# EAGLE library part TANG_PRIMER_20K_DEV (library SamacSys_Parts)
Double Data Rate (DDR) 3, 5.2 mm [.205 in] Stack Height, Right Angle Module Orientation, 204 Position, .6 mm [.024 in] Centerline, SO DIMM Sockets Source: Datasheet <https://www.te.com/commerce/DocumentDelivery/DDEController?Action=srchrtrv&DocNm=2013289&DocType=Customer Drawing&DocLang=English&DocFormat=pdf&PartCntxt=2013289-1>
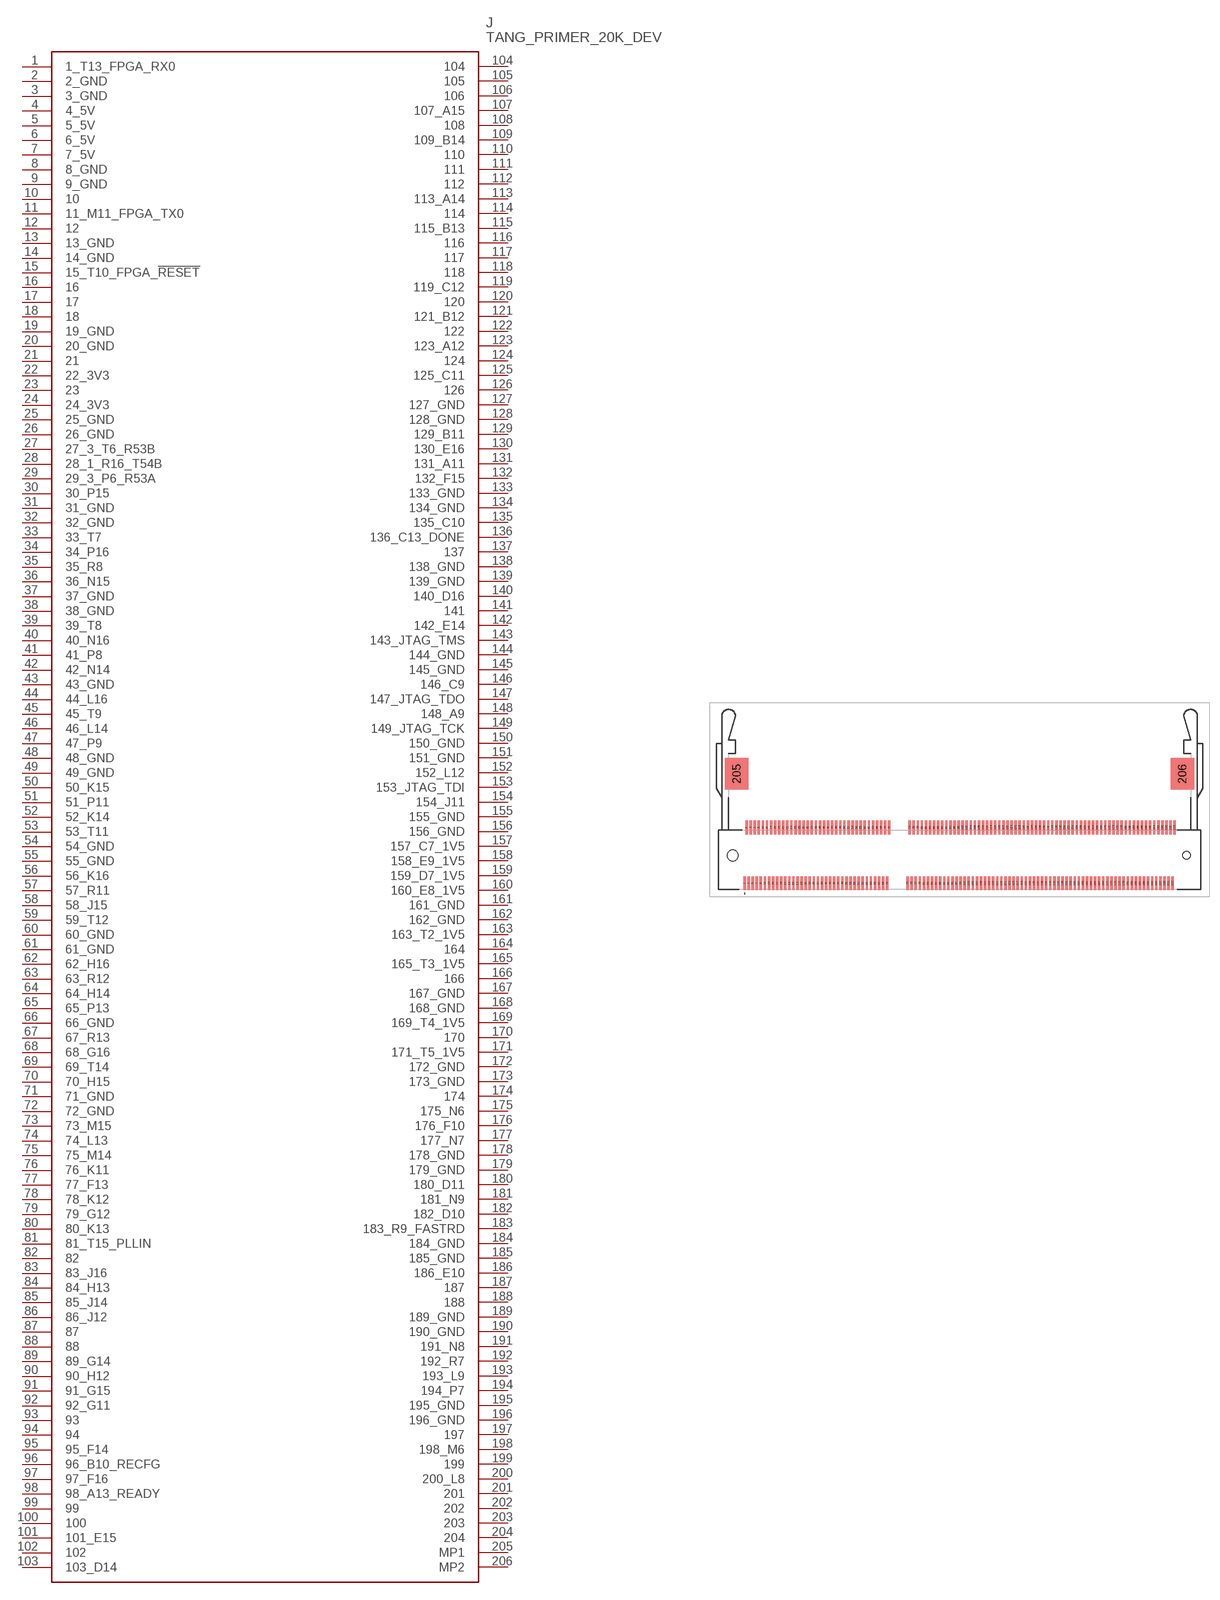
[diagram p259: symbol with the pads of 20132891; footprint 20132891]

Designator prefix J

## TANG_PRIMER_20K_DEVTANG_PRIMER_20K (LCSC_PART: C306045; MFR_PART: 2-2013289-1)  [20132891]
1  1_T13_FPGA_RX0
2  2_GND  pwr
3  3_GND  pwr
4  4_5V  pwr
5  5_5V  pwr
6  6_5V  pwr
7  7_5V  pwr
8  8_GND  pwr
9  9_GND  pwr
10  10  nc
11  11_M11_FPGA_TX0
12  12  nc
13  13_GND  pwr
14  14_GND  pwr
15  15_T10_FPGA_!RESET
16  16  nc
17  17  nc
18  18  nc
19  19_GND  pwr
20  20_GND  pwr
21  21  nc
22  22_3V3  pwr
23  23  nc
24  24_3V3  pwr
25  25_GND  pwr
26  26_GND  pwr
27  27_3_T6_R53B
28  28_1_R16_T54B
29  29_3_P6_R53A
30  30_P15
31  31_GND  pwr
32  32_GND  pwr
33  33_T7
34  34_P16
35  35_R8
36  36_N15
37  37_GND  pwr
38  38_GND  pwr
39  39_T8
40  40_N16
41  41_P8
42  42_N14
43  43_GND  pwr
44  44_L16
45  45_T9
46  46_L14
47  47_P9
48  48_GND  pwr
49  49_GND  pwr
50  50_K15
51  51_P11
52  52_K14
53  53_T11
54  54_GND  pwr
55  55_GND  pwr
56  56_K16
57  57_R11
58  58_J15
59  59_T12
60  60_GND  pwr
61  61_GND  pwr
62  62_H16
63  63_R12
64  64_H14
65  65_P13
66  66_GND  pwr
67  67_R13
68  68_G16
69  69_T14
70  70_H15
71  71_GND  pwr
72  72_GND  pwr
73  73_M15
74  74_L13
75  75_M14
76  76_K11
77  77_F13
78  78_K12
79  79_G12
80  80_K13
81  81_T15_PLLIN
82  82  nc
83  83_J16
84  84_H13
85  85_J14
86  86_J12
87  87  nc
88  88  nc
89  89_G14
90  90_H12
91  91_G15
92  92_G11
93  93  nc
94  94  nc
95  95_F14
96  96_B10_RECFG
97  97_F16
98  98_A13_READY
99  99  nc
100  100  nc
101  101_E15
102  102  nc
103  103_D14
104  104  nc
105  105  nc
106  106  nc
107  107_A15
108  108  nc
109  109_B14
110  110  nc
111  111  nc
112  112  nc
113  113_A14
114  114  nc
115  115_B13
116  116  nc
117  117  nc
118  118  nc
119  119_C12
120  120  nc
121  121_B12
122  122  nc
123  123_A12
124  124  nc
125  125_C11
126  126  nc
127  127_GND  pwr
128  128_GND  pwr
129  129_B11
130  130_E16
131  131_A11
132  132_F15
133  133_GND  pwr
134  134_GND  pwr
135  135_C10
136  136_C13_DONE
137  137  nc
138  138_GND  pwr
139  139_GND  pwr
140  140_D16
141  141  nc
142  142_E14
143  143_JTAG_TMS
144  144_GND  pwr
145  145_GND  pwr
146  146_C9
147  147_JTAG_TDO
148  148_A9
149  149_JTAG_TCK
150  150_GND
151  151_GND
152  152_L12
153  153_JTAG_TDI
154  154_J11
155  155_GND  pwr
156  156_GND  pwr
157  157_C7_1V5
158  158_E9_1V5
159  159_D7_1V5
160  160_E8_1V5
161  161_GND  pwr
162  162_GND  pwr
163  163_T2_1V5
164  164  nc
165  165_T3_1V5
166  166  nc
167  167_GND  pwr
168  168_GND  pwr
169  169_T4_1V5
170  170  nc
171  171_T5_1V5
172  172_GND  pwr
173  173_GND  pwr
174  174  nc
175  175_N6
176  176_F10
177  177_N7
178  178_GND  pwr
179  179_GND  pwr
180  180_D11
181  181_N9
182  182_D10
183  183_R9_FASTRD
184  184_GND  pwr
185  185_GND  pwr
186  186_E10
187  187  nc
188  188  nc
189  189_GND  pwr
190  190_GND  pwr
191  191_N8
192  192_R7
193  193_L9
194  194_P7
195  195_GND  pwr
196  196_GND  pwr
197  197  nc
198  198_M6
199  199  nc
200  200_L8
201  201  nc
202  202  nc
203  203  nc
204  204  nc
205  MP1
206  MP2

## Footprint 20132891 (pad centres in mm)
2013289-1-1
smd 0.35 x 2: 1 -31.65,-12.35; 2 -31.35,-4.15; 3 -31.05,-12.35; 4 -30.75,-4.15; 5 -30.45,-12.35; 6 -30.15,-4.15; 7 -29.85,-12.35; 8 -29.55,-4.15; 9 -29.25,-12.35; 10 -28.95,-4.15; 11 -28.65,-12.35; 12 -28.35,-4.15; 13 -28.05,-12.35; 14 -27.75,-4.15; 15 -27.45,-12.35; 16 -27.15,-4.15; 17 -26.85,-12.35; 18 -26.55,-4.15; 19 -26.25,-12.35; 20 -25.95,-4.15; 21 -25.65,-12.35; 22 -25.35,-4.15; 23 -25.05,-12.35; 24 -24.75,-4.15; 25 -24.45,-12.35; 26 -24.15,-4.15; 27 -23.85,-12.35; 28 -23.55,-4.15; 29 -23.25,-12.35; 30 -22.95,-4.15; 31 -22.65,-12.35; 32 -22.35,-4.15; 33 -22.05,-12.35; 34 -21.75,-4.15; 35 -21.45,-12.35; 36 -21.15,-4.15; 37 -20.85,-12.35; 38 -20.55,-4.15; 39 -20.25,-12.35; 40 -19.95,-4.15; 41 -19.65,-12.35; 42 -19.35,-4.15; 43 -19.05,-12.35; 44 -18.75,-4.15; 45 -18.45,-12.35; 46 -18.15,-4.15; 47 -17.85,-12.35; 48 -17.55,-4.15; 49 -17.25,-12.35; 50 -16.95,-4.15; 51 -16.65,-12.35; 52 -16.35,-4.15; 53 -16.05,-12.35; 54 -15.75,-4.15; 55 -15.45,-12.35; 56 -15.15,-4.15; 57 -14.85,-12.35; 58 -14.55,-4.15; 59 -14.25,-12.35; 60 -13.95,-4.15; 61 -13.65,-12.35; 62 -13.35,-4.15; 63 -13.05,-12.35; 64 -12.75,-4.15; 65 -12.45,-12.35; 66 -12.15,-4.15; 67 -11.85,-12.35; 68 -11.55,-4.15; 69 -11.25,-12.35; 70 -10.95,-4.15; 71 -10.65,-12.35; 72 -10.35,-4.15; 73 -7.65,-12.35; 74 -7.35,-4.15; 75 -7.05,-12.35; 76 -6.75,-4.15; 77 -6.45,-12.35; 78 -6.15,-4.15; 79 -5.85,-12.35; 80 -5.55,-4.15; 81 -5.25,-12.35; 82 -4.95,-4.15; 83 -4.65,-12.35; 84 -4.35,-4.15; 85 -4.05,-12.35; 86 -3.75,-4.15; 87 -3.45,-12.35; 88 -3.15,-4.15; 89 -2.85,-12.35; 90 -2.55,-4.15; 91 -2.25,-12.35; 92 -1.95,-4.15; 93 -1.65,-12.35; 94 -1.35,-4.15; 95 -1.05,-12.35; 96 -0.75,-4.15; 97 -0.45,-12.35; 98 -0.15,-4.15; 99 0.15,-12.35; 100 0.45,-4.15; 101 0.75,-12.35; 102 1.05,-4.15; 103 1.35,-12.35; 104 1.65,-4.15; 105 1.95,-12.35; 106 2.25,-4.15; 107 2.55,-12.35; 108 2.85,-4.15; 109 3.15,-12.35; 110 3.45,-4.15; 111 3.75,-12.35; 112 4.05,-4.15; 113 4.35,-12.35; 114 4.65,-4.15; 115 4.95,-12.35; 116 5.25,-4.15; 117 5.55,-12.35; 118 5.85,-4.15; 119 6.15,-12.35; 120 6.45,-4.15; 121 6.75,-12.35; 122 7.05,-4.15; 123 7.35,-12.35; 124 7.65,-4.15; 125 7.95,-12.35; 126 8.25,-4.15; 127 8.55,-12.35; 128 8.85,-4.15; 129 9.15,-12.35; 130 9.45,-4.15; 131 9.75,-12.35; 132 10.05,-4.15; 133 10.35,-12.35; 134 10.65,-4.15; 135 10.95,-12.35; 136 11.25,-4.15; 137 11.55,-12.35; 138 11.85,-4.15; 139 12.15,-12.35; 140 12.45,-4.15; 141 12.75,-12.35; 142 13.05,-4.15; 143 13.35,-12.35; 144 13.65,-4.15; 145 13.95,-12.35; 146 14.25,-4.15; 147 14.55,-12.35; 148 14.85,-4.15; 149 15.15,-12.35; 150 15.45,-4.15; 151 15.75,-12.35; 152 16.05,-4.15; 153 16.35,-12.35; 154 16.65,-4.15; 155 16.95,-12.35; 156 17.25,-4.15; 157 17.55,-12.35; 158 17.85,-4.15; 159 18.15,-12.35; 160 18.45,-4.15; 161 18.75,-12.35; 162 19.05,-4.15; 163 19.35,-12.35; 164 19.65,-4.15; 165 19.95,-12.35; 166 20.25,-4.15; 167 20.55,-12.35; 168 20.85,-4.15; 169 21.15,-12.35; 170 21.45,-4.15; 171 21.75,-12.35; 172 22.05,-4.15; 173 22.35,-12.35; 174 22.65,-4.15; 175 22.95,-12.35; 176 23.25,-4.15; 177 23.55,-12.35; 178 23.85,-4.15; 179 24.15,-12.35; 180 24.45,-4.15; 181 24.75,-12.35; 182 25.05,-4.15; 183 25.35,-12.35; 184 25.65,-4.15; 185 25.95,-12.35; 186 26.25,-4.15; 187 26.55,-12.35; 188 26.85,-4.15; 189 27.15,-12.35; 190 27.45,-4.15; 191 27.75,-12.35; 192 28.05,-4.15; 193 28.35,-12.35; 194 28.65,-4.15; 195 28.95,-12.35; 196 29.25,-4.15; 197 29.55,-12.35; 198 29.85,-4.15; 199 30.15,-12.35; 200 30.45,-4.15; 201 30.75,-12.35; 202 31.05,-4.15; 203 31.35,-12.35; 204 31.65,-4.15
smd 3.5 x 4.6: 205 -32.8,3.75; 206 32.8,3.75
hole 1.6 at -33.4,-8.25
hole 1.1 at 33.4,-8.25